# Altium schematic symbol library L298N.Schlib: 1 symbol
Pins are listed as number, name and electrical type; pins without a type are passive.

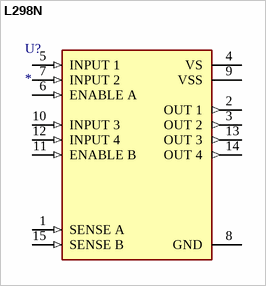
[diagram p0: symbol L298N]

## L298N
designator U?
Multiwatt15 Motor Drivers RoHS; MF: {'manufacturer': u'STMicroelectronics'}; MP: L298N; Availability: Unavailable; Value: *; Package: None; Price: None; LCSC Part #: C434589; JLCPCB Part Type: Extended; ComponentLink1Description: LCSC - HGSEMI L298N; ComponentLink1URL: https://lcsc.com/product-detail/Motor-Drivers_HGSEMI-L298N_C434589.html/?href=jlc-SMT
footprint TO127P2020X500X2100-15
pins: 1 SENSE A (in) "Between this pin and ground is connected the sense resistor to control the current of the load.", 2 OUT 1 (out) "Outputs of the Bridge A; the current that flows through the load connected between these two pins is monitored at pin 1.", 3 OUT 2 (out) "Outputs of the Bridge A; the current that flows through the load connected between these two pins is monitored at pin 1.", 4 VS (power) "Supply Voltage for the Power Output Stages. A non-inductive 100nF capacitor must be connected between this pin and ground.", 5 INPUT 1 (in) "TTL Compatible Inputs of the Bridge A.", 6 ENABLE A (in) "TTL Compatible Enable Input: the L state disables the bridge A (enable A) and/or the bridge B (enable B).", 7 INPUT 2 (in) "TTL Compatible Inputs of the Bridge A.", 8 GND (power) "Ground.", 9 VSS (power) "Supply Voltage for the Logic Blocks. A100nF capacitor must be connected between this pin and ground.", 10 INPUT 3 (in) "TTL Compatible Inputs of the Bridge B.", 11 ENABLE B (in) "TTL Compatible Enable Input: the L state disables the bridge A (enable A) and/or the bridge B (enable B).", 12 INPUT 4 (in) "TTL Compatible Inputs of the Bridge B.", 13 OUT 3 (out) "Outputs of the Bridge B. The current that flows through the load connected between these two pins is monitored at pin 15.", 14 OUT 4 (out) "Outputs of the Bridge B. The current that flows through the load connected between these two pins is monitored at pin 15.", 15 SENSE B (in) "Between this pin and ground is connected the sense resistor to control the current of the load."